# EAGLE library part XGZB-PCB7/8 (library custom)
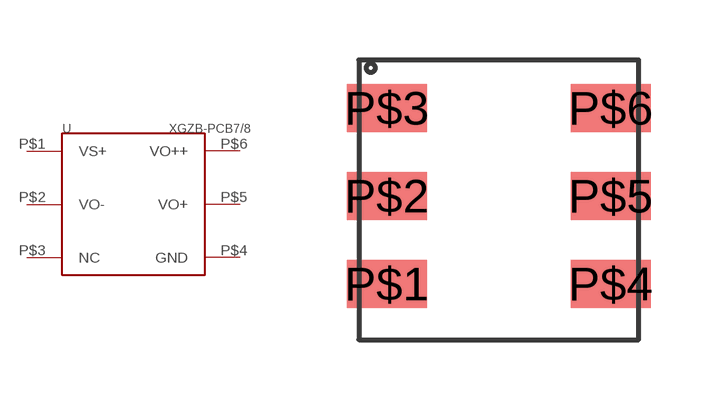
[diagram p11: symbol with the pads of XGZB-PC7/8; footprint XGZB-PC7/8]

Designator prefix U

## XGZB-PCB7/8  [XGZB-PC7/8]
P$1  VS+
P$2  VO-
P$3  NC
P$4  GND
P$5  VO+
P$6  VO++

## Footprint XGZB-PC7/8 (pad centres in mm)
smd 2 x 1.2: P$1 -2.8,-2.1; P$2 -2.8,0.1; P$3 -2.8,2.3; P$4 2.8,-2.1; P$5 2.8,0.1; P$6 2.8,2.3